# Altium schematic symbol library ENC.SchLib: 1 symbol
Pins are listed as number, name and electrical type; pins without a type are passive.

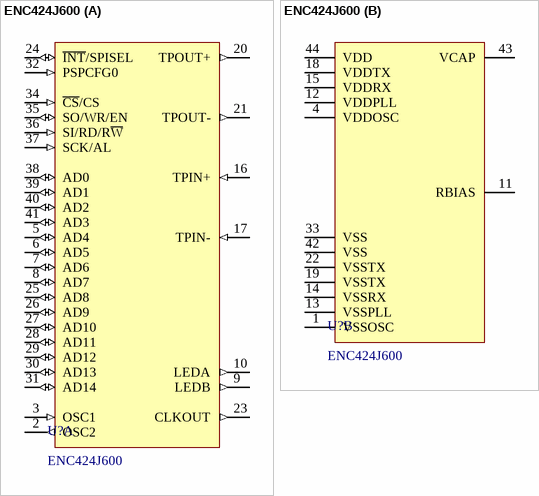
[diagram p0: symbol ENC424J600]

## ENC424J600
designator U?
Stand-Alone 10/100 Ethernet Controllerwith SPI or Parallel Interface
footprint TQFP44
part A pins: 2 OSC2 (out), 3 OSC1 (in), 5 AD4 (io), 6 AD5 (io), 7 AD6 (io), 8 AD7 (io), 9 LEDB (out), 10 LEDA (out), 16 TPIN+ (in), 17 TPIN- (in), 20 TPOUT+ (out), 21 TPOUT- (out), 23 CLKOUT (out), 24 ~{INT}/SPISEL (io), 25 AD8 (io), 26 AD9 (io), 27 AD10 (io), 28 AD11 (io), 29 AD12 (io), 30 AD13 (io), 31 AD14 (io), 32 PSPCFG0 (in), 34 ~{CS}/CS (in), 35 SO/WR/EN (io), 36 SI/RD/R~{W} (in), 37 SCK/AL (in), 38 AD0 (io), 39 AD1 (io), 40 AD2 (io), 41 AD3 (io)
part B pins: 1 VSSOSC (power), 4 VDDOSC (power), 11 RBIAS, 12 VDDPLL (power), 13 VSSPLL (power), 14 VSSRX (power), 15 VDDRX (power), 18 VDDTX (power), 19 VSSTX (power), 22 VSSTX (power), 33 VSS (power), 42 VSS (power), 43 VCAP (power), 44 VDD (power)